# EAGLE library part LM2901N (library LM2901N)
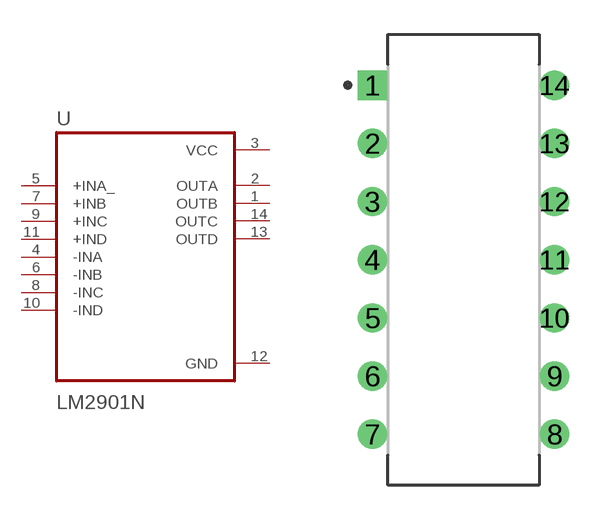
[diagram p0: symbol with the pads of DIP794W45P254L1969H508Q14; footprint DIP794W45P254L1969H508Q14]

Designator prefix U

## LM2901N  [DIP794W45P254L1969H508Q14]
1  OUTB  out
2  OUTA  out
3  VCC  pwr
4  -INA  in
5  +INA_  in
6  -INB  in
7  +INB  in
8  -INC  in
9  +INC  in
10  -IND  in
11  +IND  in
12  GND  pwr
13  OUTD  out
14  OUTC  out

## Footprint DIP794W45P254L1969H508Q14 (pad centres in mm)
drill 0.77 pad 1.17 square: 1 -3.97,7.62
drill 0.77 pad 1.17: 2 -3.97,5.08; 3 -3.97,2.54; 4 -3.97,0; 5 -3.97,-2.54; 6 -3.97,-5.08; 7 -3.97,-7.62; 8 3.97,-7.62; 9 3.97,-5.08; 10 3.97,-2.54; 11 3.97,0; 12 3.97,2.54; 13 3.97,5.08; 14 3.97,7.62